# EAGLE library part 5747844 (library Connector_D-Sub)
D-SUB, 9POS, RCPT, R/A SLDR Datasheet <https://www.te.com/commerce/DocumentDelivery/DDEController?Action=showdoc&DocId=Catalog+Section%7F82068_AMPLIMITE_Right-Angle_Posted_Conn%7F0412%7Fpdf%7FEnglish%7FENG_CS_82068_AMPLIMITE_Right-Angle_Posted_Conn_0412.pdf%7F5747840-4>
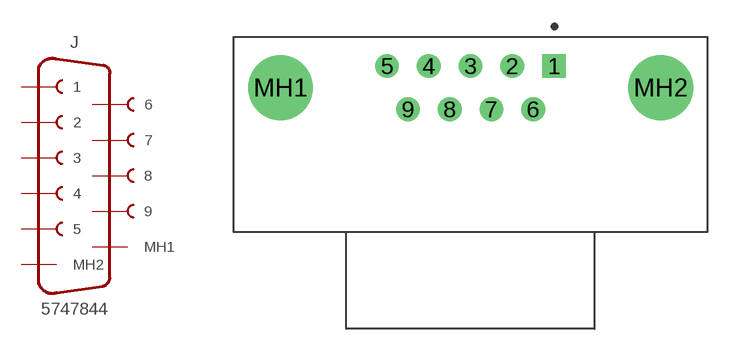
[diagram p14: symbol with the pads of 5747844-4; footprint 5747844-4]

Designator prefix J

## 5747844" (CATEGORY: Connector; DESCRIPTION: PCB D-Sub Connectors, Receptacle, Board-to-Board, 9 Position, 2.74mm [.108in] Centerline, 2 Row, Row-to-Row Spacing 2.84 mm [. 112 in]; GENDER: Female; MANUFACTURER: TE Connectivity; MPN: 5747844-4; OPERATING_TEMP: -55°C to +105 °C; PART_STATUS: Active; ROHS_COMPLIANT: RoHS Compliant; SERIES: AMPLIMITE HD-20; SUB-CATEGORY: D-SUB; TYPE: R/A; VALUE: D-SUB-RCPT-9P)  [5747844-4]
1  1  pas
2  2  pas
3  3  pas
4  4  pas
5  5  pas
6  6  pas
7  7  pas
8  8  pas
9  9  pas
MH1  MH2  sup
MH2  MH1  sup

## Footprint 5747844-4 (pad centres in mm)
drill 1.041 square: 1 0,0
drill 1.041: 2 -2.743,0; 3 -5.486,0; 4 -8.23,0; 5 -10.973,0; 6 -1.372,-2.845; 7 -4.115,-2.845; 8 -6.858,-2.845; 9 -9.601,-2.845
drill 3.251: MH1 -17.983,-1.422; MH2 7.01,-1.422